# Altium schematic symbol library Schlib1.SchLib: 13 symbols
Pins are listed as number, name and electrical type; pins without a type are passive.

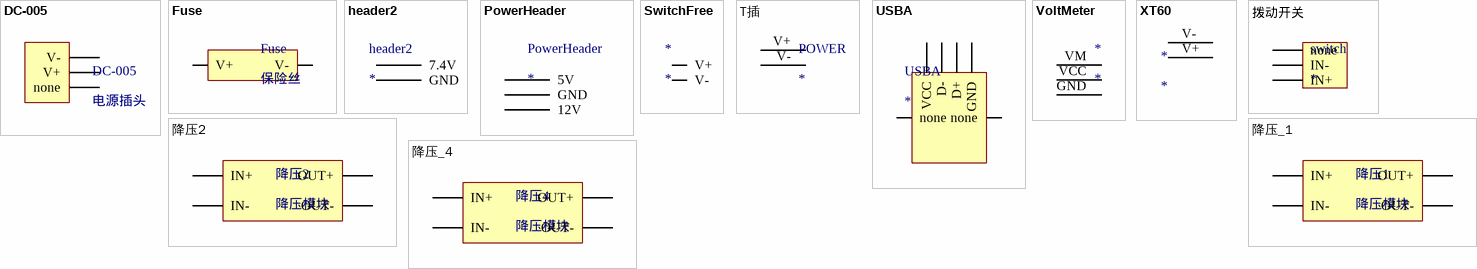
[diagram p0: symbols DC-005 to 降压_4]

## DC-005
designator DC-005, comment 电源插头
footprint DC-005
pins: none, V+, V-

## Fuse
designator Fuse, comment 保险丝
footprint FUSE (保险丝)
pins: V+, V-

## header2
designator header2
footprint HEADER2
pins: 7.4V, GND

## PowerHeader
designator PowerHeader
footprint PowerHeader
pins: 5V, 12V, GND

## SwitchFree
designator *
footprint SwitchFree
pins: V+, V-

## T插
designator POWER
footprint T-POWER (T插)
pins: V+, V-

## USBA
designator USBA
footprint USB-A
pins: D+, D-, GND, none, none, VCC

## VoltMeter
designator *
footprint VoltMeter
pins: GND, VCC, VM

## XT60
designator *
footprint XT60
pins: V+, V-

## 拨动开关
designator switch
footprint Switch
pins: IN+, IN-, none

## 降压2
designator 降压2, comment 降压模块
XL4015
footprint XL4015
pins: IN+, IN-, OUT+, OUT-

## 降压_1
designator 降压1, comment 降压模块
mini560
footprint 贴片1
pins: IN+, IN-, OUT+, OUT-

## 降压_4
designator 降压4, comment 降压模块
USB
footprint 贴片4-USB
pins: IN+, IN-, OUT+, OUT-